# EAGLE library part STM32F042K6T6 (library STM32F042K6T6)
Entry-level ARM Cortex-M0 MCU with 32 Kbytes Flash, 48 MHz CPU, USB, CAN and CEC functions
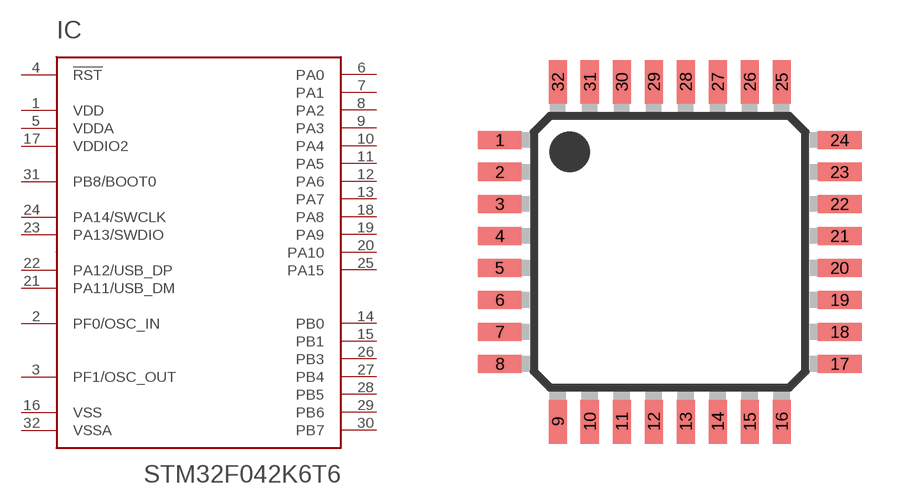
[diagram p0: symbol with the pads of QFP80P900X900X160-32N; footprint QFP80P900X900X160-32N]

Designator prefix IC

## STM32F042K6T6 (AVAILABILITY: Unavailable; DESCRIPTION: Entry-level ARM Cortex-M0 MCU with 32 Kbytes Flash, 48 MHz CPU, USB, CAN and CEC functions; MF: STMicroelectronics; MP: STM32F042K6T6; PACKAGE: LQFP-32 STMicroelectronics; PRICE: None)  [QFP80P900X900X160-32N]
1  VDD  pwr
2  PF0/OSC_IN
3  PF1/OSC_OUT
4  !RST  in
5  VDDA  pwr
6  PA0
7  PA1
8  PA2
9  PA3
10  PA4
11  PA5
12  PA6
13  PA7
14  PB0
15  PB1
16  VSS  pas
17  VDDIO2  pwr
18  PA8
19  PA9
20  PA10
21  PA11/USB_DM
22  PA12/USB_DP
23  PA13/SWDIO
24  PA14/SWCLK
25  PA15
26  PB3
27  PB4
28  PB5
29  PB6
30  PB7
31  PB8/BOOT0
32  VSSA  pas

## Footprint QFP80P900X900X160-32N (pad centres in mm)
smd 1.1 x 0.45: 1 -4.25,2.8; 2 -4.25,2; 3 -4.25,1.2; 4 -4.25,0.4; 5 -4.25,-0.4; 6 -4.25,-1.2; 7 -4.25,-2; 8 -4.25,-2.8; 17 4.25,-2.8; 18 4.25,-2; 19 4.25,-1.2; 20 4.25,-0.4; 21 4.25,0.4; 22 4.25,1.2; 23 4.25,2; 24 4.25,2.8
smd 0.45 x 1.1: 9 -2.8,-4.25; 10 -2,-4.25; 11 -1.2,-4.25; 12 -0.4,-4.25; 13 0.4,-4.25; 14 1.2,-4.25; 15 2,-4.25; 16 2.8,-4.25; 25 2.8,4.25; 26 2,4.25; 27 1.2,4.25; 28 0.4,4.25; 29 -0.4,4.25; 30 -1.2,4.25; 31 -2,4.25; 32 -2.8,4.25